# Altium footprint library EHT-113-01-S-D.PcbLib: 1 footprints
Each footprint in its own frame and in the unit in brackets; x right, y up, seen from the top. Pads: shape width x height; smd on the part's side, far side on the other; paste and mask are expansions set on the pad; w line width, h text height; cw(c..) or ccw(c..) is an arc to the next point about the centre after c.
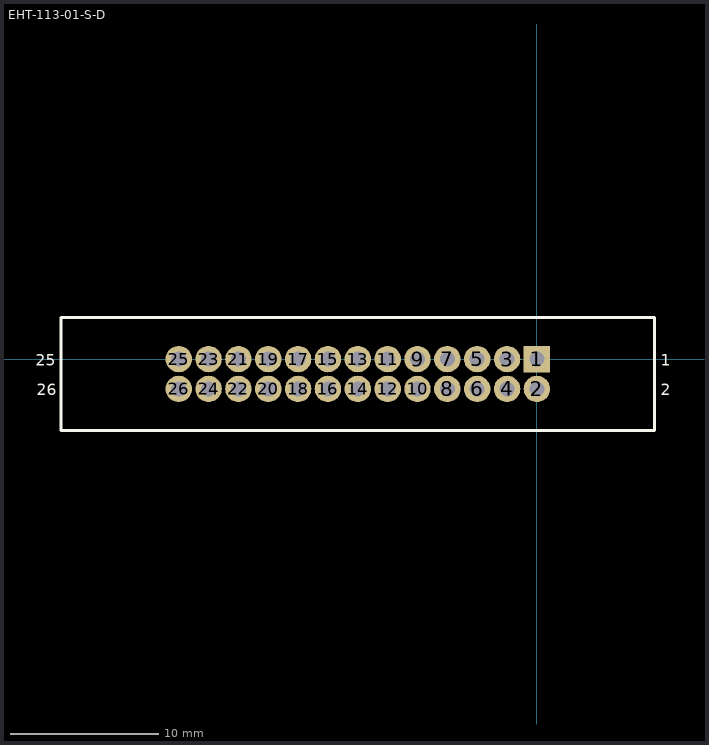
[diagram p0: the footprint, top view; thin cyan lines are the x and y axes]

## EHT-113-01-S-D [mil]
height 50
pads (26):
  rect 70x70 hole 40: 1(0,0)
  round 70 hole 40: 2(0,-79) 3(-79,0) 4(-79,-79) 5(-158,0) 6(-158,-79) 7(-237,0) 8(-237,-79) 9(-316,0) 10(-316,-79) 11(-395,0) 12(-395,-79) 13(-474,0) 14(-474,-79) 15(-553,0) 16(-553,-79) 17(-632,0) 18(-632,-79) 19(-711,0) 20(-711,-79) 21(-790,0) 22(-790,-79) 23(-869,0) 24(-869,-79) 25(-948,0) 26(-948,-79)
TopOverlay:
  lines w8: -1259.5,-189.5 -1259.5,110.5 311.5,110.5 311.5,-189.5 -1259.5,-189.5
  text "26" at -1324.43,-95.98 h30
  text "25" at -1326.34,-17.65 h30
  text "2" at 328.14,-95.98 h30
  text "1" at 328.14,-17.65 h30
3D body: height 484.02, standoff -113.4, extent -1282.63,-190.76 333.01,109.24